# Altium footprint library switch.PcbLib: 1 footprints
Each footprint in its own frame and in the unit in brackets; x right, y up, seen from the top. Pads: shape width x height; smd on the part's side, far side on the other; paste and mask are expansions set on the pad; w line width, h text height; cw(c..) or ccw(c..) is an arc to the next point about the centre after c.
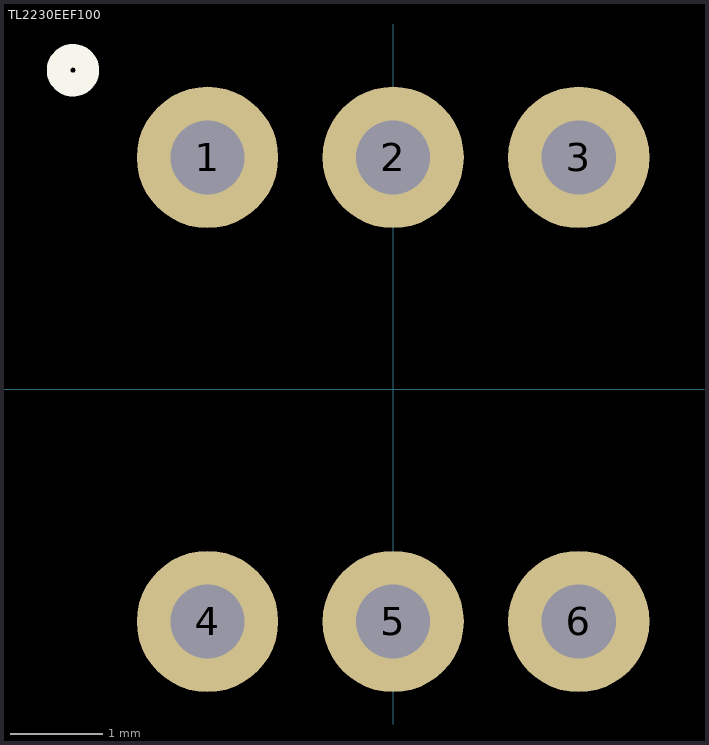
[diagram p0: the footprint, top view; thin cyan lines are the x and y axes]

## TL2230EEF100 [mm] "SWITCH PUSHBUTTON DPDT 0.1A 30V"
pads (6):
  round 1.524 hole 0.8: 1(-2,2.5) 2(0,2.5) 3(2,2.5) 4(-2,-2.5) 5(0,-2.5) 6(2,-2.5)
Top Overlay:
  circle w0.254: c-3.45,3.44 r0.155
3D body "TL2230EEF100--3DModel-STEP-520916.STEP": height 11.75, standoff -4.25, extent -3.5,-3.5 3.5,3.5